# Altium schematic symbol library LPEDT_Parts.SchLib: 52 symbols (part 1 of 3)
Pins are listed as number, name and electrical type; pins without a type are passive.

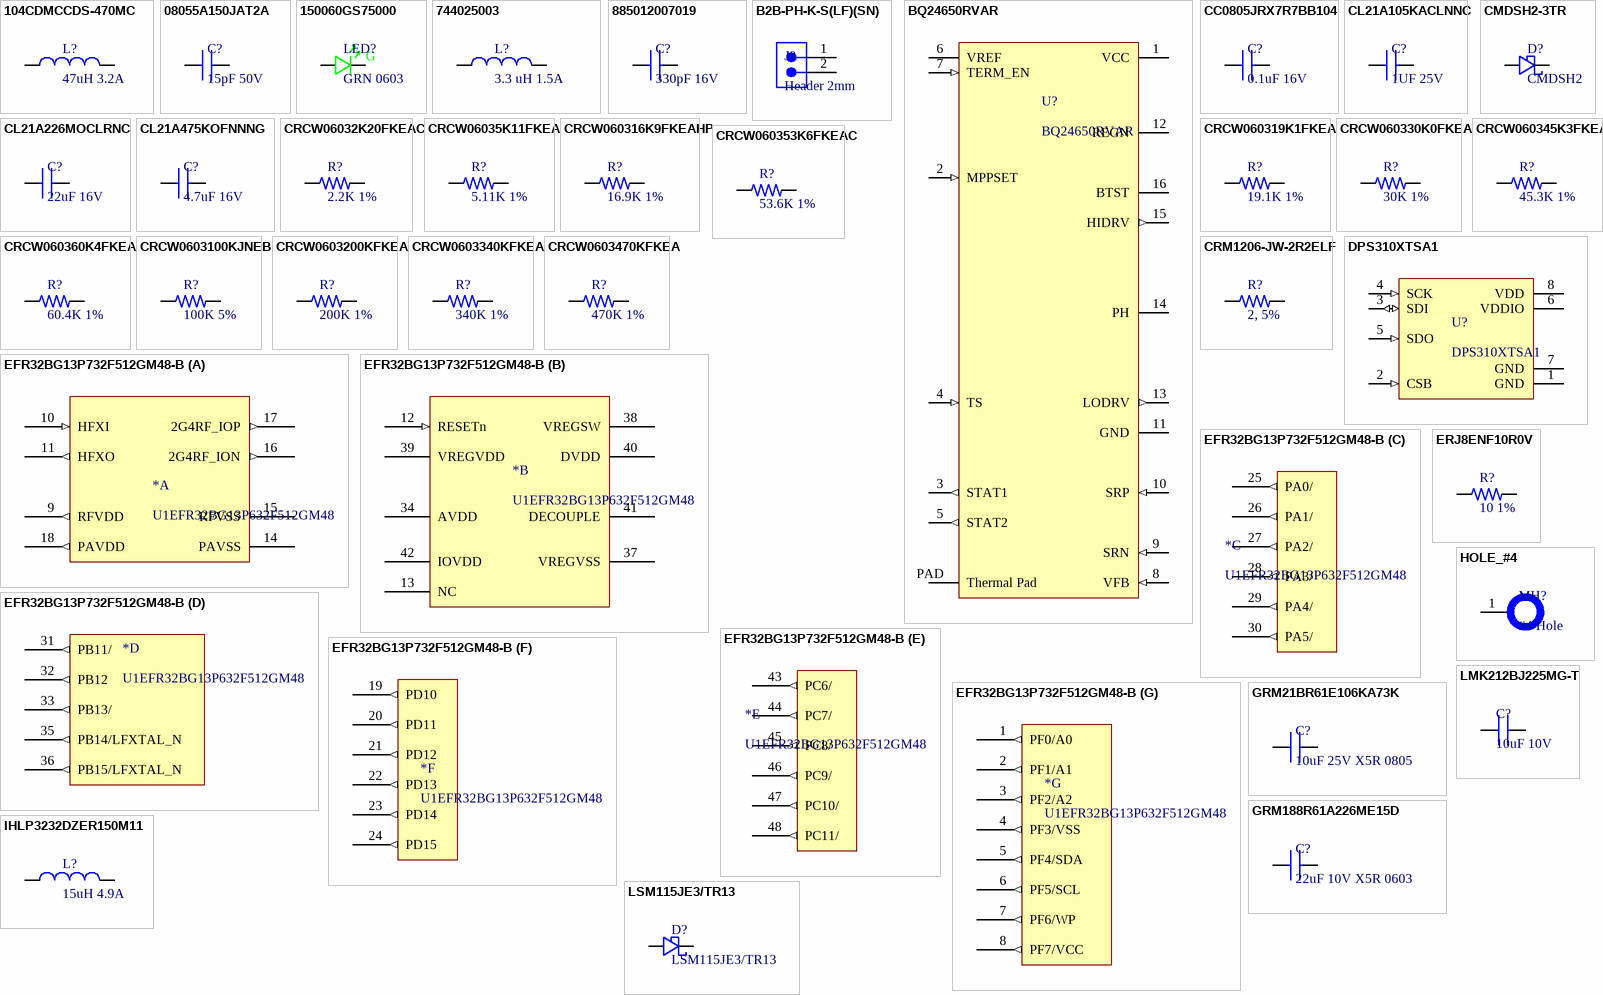
[diagram p0: symbols 104CDMCCDS-470MC to LSM115JE3/TR13]

## 104CDMCCDS-470MC
designator L?, comment 47uH 3.2A
Fixed Ind 47UH 3.2A 145 Mohm; Manufacturer: Sumida; Manufacturer Part Number: 104CDMCCDS-470MC; Core Material: Metal; Saturation Current: 4.3A; Shielding: Shielded; DC Resistance (DCR): 145mR; Test Frequency: 100kHz; Tolerance: 20%; Supplier 1: Digi-Key; RoHS: Yes; Category: Fixed Inductors; Stock 1: 9950; Pricing 1: 1=0.90000, 10=0.83800, 25=0.77400, 50=0.64500, 100=0.60630, 250=0.54180 (USD); Mount: Surface Mount; Case/Package: Nonstandard; Min Operating Temperature: -55°C; Max Operating Temperature: 125°C; Packaging: Tape and Reel; Inductance: 47uH; Current Rating: 3.2A; Length: 0.453inch; Width: 0.394inch; Height - Seated (Max): 0.157inch; RoHS Compliant: Yes; ComponentLink1URL: http://products.sumida.com/products/pdf/104CDMCCDS.pdf?src-supplier=Digi-Key; ComponentLink1Description: http://products.sumida.com/products/pdf/104CDMCCDS.pdf?src-supplier=Digi-Key
footprint IND_11_5MMX10_3MM (Molded Inductor, 2-Leads, Body 11.50x10.00mm, IPC Medium Density)
pins: 1, 2

## 08055A150JAT2A
designator C?, comment 15pF 50V
0805 15pF Ceramic Multilayer Capacitor, 50 V dc,  +125degC,  C0G Dielectric,  +/-5%; Manufacturer: Kyocera AVX; Manufacturer Part Number: 08055A150JAT2A; Tolerance: 5%; Temperature Coefficient: 0ppm/°C; Supplier 1: Digi-Key; RoHS: Yes; Category: Ceramic Capacitors; Stock 1: 59408; Pricing 1: 1=0.14000, 10=0.10200, 50=0.05780, 100=0.04780, 500=0.03356, 1000=0.02778 (USD); Mount: Surface Mount,PCB; Case/Package: 0805; Number of Pins: 2; Case Code (Metric): 2012; Case Code (Imperial): 0805; Contact Plating: Tin,Matte; Dielectric Material: Ceramic; Min Operating Temperature: -55°C; Max Operating Temperature: 125°C; Capacitance: 15pF; Dielectric: C0G; Packaging: Tape and Reel; Voltage Rating (DC): 50V; Package Quantity: 1; Voltage Rating: 50V; Termination: SMD/SMT; Voltage: 50V; Series: -; Construction: Flat; Length: 2.01mm; Width: 0.049inch; Height: 0.71mm; Depth: 1.25mm; Thickness: 0.037inch; Radiation Hardening: No; REACH SVHC: No SVHC; Lead Free: Lead Free; RoHS Compliant: Yes; ComponentLink1URL: https://datasheet.ciiva.com/150/ccog-150608.pdf?src-supplier=Digi-Key; ComponentLink1Description: https://datasheet.ciiva.com/150/ccog-150608.pdf?src-supplier=Digi-Key; ComponentLink2URL: https://datasheet.ciiva.com/150/ccog-150609.pdf?src-supplier=Digi-Key; ComponentLink2Description: https://datasheet.ciiva.com/150/ccog-150609.pdf?src-supplier=Digi-Key; ComponentLink3URL: https://datasheet.ciiva.com/150/ccog-150610.pdf?src-supplier=Digi-Key; ComponentLink3Description: https://datasheet.ciiva.com/150/ccog-150610.pdf?src-supplier=Digi-Key; ComponentLink4URL: https://datasheet.ciiva.com/16537/ccog-16537029.pdf?src-supplier=Avnet+Asia; ComponentLink4Description: https://datasheet.ciiva.com/16537/ccog-16537029.pdf?src-supplier=Avnet+Asia; ComponentLink5URL: https://datasheet.ciiva.com/22676/759117-22676981.pdf?src-supplier=Element14; ComponentLink5Description: https://datasheet.ciiva.com/22676/759117-22676981.pdf?src-supplier=Element14; ComponentLink6URL: https://datasheet.ciiva.com/2987/ccog-2987979.pdf?src-supplier=Avnet; ComponentLink6Description: https://datasheet.ciiva.com/2987/ccog-2987979.pdf?src-supplier=Avnet; ComponentLink7URL: https://datasheet.ciiva.com/17492/ccog-17492987.pdf?src-supplier=Avnet+Europe; ComponentLink7Description: https://datasheet.ciiva.com/17492/ccog-17492987.pdf?src-supplier=Avnet+Europe; ComponentLink8URL: https://datasheet.ciiva.com/7812/759117-7812028.pdf?src-supplier=Element14; ComponentLink8Description: https://datasheet.ciiva.com/7812/759117-7812028.pdf?src-supplier=Element14; ComponentLink9URL: https://datasheet.ciiva.com/14592/70001039-14592399.pdf?src-supplier=Allied+Electronics; ComponentLink9Description: https://datasheet.ciiva.com/14592/70001039-14592399.pdf?src-supplier=Allied+Electronics
footprint CAP_0805_1_4MM (Chip Capacitor, 2-Leads, Body 2.00x1.25mm, IPC Medium Density)
pins: 1, 2

## 150060GS75000
designator LED?, comment GRN 0603
LED, 0603, GREEN, 430MCD, 520NM; Manufacturer: Wurth Electronics; Manufacturer Part Number: 150060GS75000; Dynamic Catalog: 0603 Rectangle with Flat Top Chip LEDs; 3D Model: SMCW_0603.igs / SMCW_0603.stp / SMCW_0603.wrl; Wavelength - Peak: 515nm; Voltage - Forward (Vf) (Typ): 3.2V; Current - Test: 20mA; Viewing Angle: 140°; Lens Type: Clear; Lens Style/Size: Rectangle with Flat Top, 1.1mm x 0.7mm; Other Names: 732-4971-2; Supplier 1: Digi-Key; Stock 1: 34964; Pricing 1: 1=0.14, 50=0.129, 100=0.11, 500=0.095 (USD); Standard Package: 4,000; Category: Optoelectronics; Family: LED Indication - Discrete; Series: WL-SMCW; Packaging: Tape & Reel (TR); Color: Green; Wavelength - Dominant: 520nm; Millicandela Rating: 430mcd; Package / Case: 0603 (1608 Metric); Size / Dimension: 1.60mm L x 0.80mm W; Height: 0.70mm; Mounting Type: Surface Mount; Online Catalog: 0603 Rectangle with Flat Top Chip LEDs; ComponentLink1URL: https://katalog.we-online.de/led/datasheet/150060GS75000.pdf?src-supplier=Digi-Key; ComponentLink1Description: https://katalog.we-online.de/led/datasheet/150060GS75000.pdf?src-supplier=Digi-Key; ComponentLink2URL: http://www.produktinfo.conrad.com/datenblaetter/750000-774999/759427-da-01-en-CHIPLED_0603_W_KL_GRUEN_150060GS75000.pdf?src-supplier=Conrad; ComponentLink2Description: http://www.produktinfo.conrad.com/datenblaetter/750000-774999/759427-da-01-en-CHIPLED_0603_W_KL_GRUEN_150060GS75000.pdf?src-supplier=Conrad; Supplier Part Number 1: 732-4971-1-ND
footprint LED_0603_GRN_WL-SMCW (SODFL, 2-Leads, Body 0.80x1.80mm, IPC Medium Density)
pins: A, C
text: G

## 744025003
designator L?, comment 3.3 uH 1.5A
WURTH ELEKTRONIK - 744025003 - Leistungsinduktivität (SMD), 3.3 µH, 1.5 A, Geschirmt, 1.8 A, Baureihe WE-TPC; Manufacturer: Wurth Electronics; Core Material: Ferrite; Tolerance: 20%; Saturation Current: 1.8A; Shielding: Shielded; Self Resonant Frequency: 100MHz; Inductance: 3.3uH; DC Resistance (DCR): 101mR; Test Frequency: 100kHz; Series Resistance: 85MR; Supplier 1: Digi-Key; Manufacturer Part Number: 744025003; RoHS: Yes; Category: Fixed Inductors; Stock 1: 2844; Pricing 1: 1=1.54000, 10=1.48000, 50=1.36000, 100=1.13000, 250=1.02000 (USD); Mount: Surface Mount; Case/Package: Nonstandard; Number of Pins: 2; Min Operating Temperature: -40°C; Max Operating Temperature: 125°C; Package Quantity: 1; Packaging: Cut Tape; Series: WE-TPC; Current Rating: 1.5A; Inductance Tolerance: 20%; Resistor Type: Wirewound; Max DC Current: 1.5A; Termination: SMD/SMT; RMS Current (Irms): 1.5A; Length: 2.8mm; Width: 0.11inch; Height: 2.8mm; Height - Seated (Max): 0.118inch; Depth: 2.8mm; REACH SVHC: Unknown; RoHS Compliant: Yes; ComponentLink1URL: https://datasheet.ciiva.com/1060/744025003-1060566.pdf?src-supplier=Digi-Key; ComponentLink1Description: https://datasheet.ciiva.com/1060/744025003-1060566.pdf?src-supplier=Digi-Key; ComponentLink2URL: https://datasheet.ciiva.com/11803/0900766b80f886b5-11803594.pdf?src-supplier=RSComponents; ComponentLink2Description: https://datasheet.ciiva.com/11803/0900766b80f886b5-11803594.pdf?src-supplier=RSComponents; ComponentLink3URL: https://datasheet.ciiva.com/4954/744025003-88791-4954796.pdf?src-supplier=Mouser; ComponentLink3Description: https://datasheet.ciiva.com/4954/744025003-88791-4954796.pdf?src-supplier=Mouser; ComponentLink4URL: https://datasheet.ciiva.com/14123/744025003-eng-tds-14123829.pdf?src-supplier=Distrelec; ComponentLink4Description: https://datasheet.ciiva.com/14123/744025003-eng-tds-14123829.pdf?src-supplier=Distrelec; ComponentLink5URL: https://datasheet.ciiva.com/1060/744025003-1060567.pdf?src-supplier=Digi-Key; ComponentLink5Description: https://datasheet.ciiva.com/1060/744025003-1060567.pdf?src-supplier=Digi-Key; ComponentLink6URL: https://datasheet.ciiva.com/1060/744025003-1060568.pdf?src-supplier=Digi-Key; ComponentLink6Description: https://datasheet.ciiva.com/1060/744025003-1060568.pdf?src-supplier=Digi-Key
footprint IND_2828x30 (Precision Wire Wound Inductor, 2-Leads, Body 2.80x2.80mm, IPC Medium Density)
pins: 1, 2

## 885012007019
designator C?, comment 330pF 16V
WURTH ELEKTRONIK - 885012007019 - CAP, 330PF, 16V, 5%, C0G/NP0, 0805; Manufacturer: Wurth Electronics; Supplier 1: Digi-Key; Manufacturer Part Number: 885012007019; RoHS: Yes; Category: Ceramic Capacitors; Stock 1: 2084; Pricing 1: 1=0.10000, 10=0.08500, 100=0.07600, 500=0.06718 (USD); Mount: Surface Mount; Case/Package: 0805; Case Code (Metric): 2012; Case Code (Imperial): 0805; Min Operating Temperature: -55°C; Max Operating Temperature: 125°C; Packaging: Tape and Reel; Capacitance: 330pF; Voltage Rating: 16V; Tolerance: 5%; Length: 0.079inch; Width: 0.049inch; Thickness: 0.028inch; RoHS Compliant: Yes; ComponentLink1URL: http://www.farnell.com/datasheets/2546626.pdf?src-supplier=Farnell; ComponentLink1Description: http://www.farnell.com/datasheets/2546626.pdf?src-supplier=Farnell; ComponentLink2URL: https://katalog.we-online.de/pbs/datasheet/885012007019.pdf?src-supplier=Digi-Key; ComponentLink2Description: https://katalog.we-online.de/pbs/datasheet/885012007019.pdf?src-supplier=Digi-Key
footprint CAP_0805_1_4MM (Chip Capacitor, 2-Leads, Body 2.00x1.25mm, IPC Medium Density)
pins: 1, 2

## B2B-PH-K-S(LF)(SN)
designator J?, comment Header 2mm
Connector Header, PH Series, 2 Position, 2.00mm, Through Hole, Press-Fit, Solder, Natural; Manufacturer: JST; Manufacturer Part Number: B2B-PH-K-S(LF)(SN); Supplier 1: Digi-Key; RoHS: Yes; Category: Connectors; Stock 1: 171845; Pricing 1: 1=0.17000, 10=0.16200, 25=0.12080, 50=0.10360, 250=0.08632, 750=0.07771, 1000=0.07252, 12000=0.05526, 24000=0.05008 (USD); Weight: 0.0625lb; Length: 0.2inch; Width: 0.24inch; Height: 0.35inch; ComponentLink1URL: http://www.farnell.com/datasheets/2057211.pdf?src-supplier=Farnell; ComponentLink1Description: http://www.farnell.com/datasheets/2057211.pdf?src-supplier=Farnell; ComponentLink2URL: http://www.farnell.com/datasheets/2057211.pdf?src-supplier=Element14; ComponentLink2Description: http://www.farnell.com/datasheets/2057211.pdf?src-supplier=Element14; ComponentLink3URL: http://www.farnell.com/datasheets/2057211.pdf?src-supplier=Newark; ComponentLink3Description: http://www.farnell.com/datasheets/2057211.pdf?src-supplier=Newark
footprint 2-PIN_MALE_HEADER_2MM (2MM SQ Post Terminal Strip Assembly, 1x2 Pins, Vertical, 2mm Pitch, Male)
pins: 1, 2

## BQ24650RVAR
designator U?
High Efficiency Synchronous Switch-Mode Charger Controller – Solar Battery Charger 16-VQFN -40 to 85; Manufacturer: Texas Instruments; Output Voltage: 26V; Min Supply Voltage: 5V; Max Supply Voltage: 28V; Output Current: 10A; Operating Supply Current: 25mA; Switching Frequency: 600kHz; Number of Cells: 123456; Supplier 1: Digi-Key; Manufacturer Part Number: BQ24650RVAR; RoHS: Yes; Category: Battery Management; Stock 1: 7704; Pricing 1: 1=4.94000, 10=4.44000, 25=4.19760, 100=3.45140, 250=3.09688, 500=2.98496, 1000=2.48125 (USD); Case/Package: VQFN EP; Number of Pins: 16; Contact Plating: Gold; Min Operating Temperature: -40°C; Max Operating Temperature: 85°C; Package Quantity: 3000; Packaging: Tape and Reel; Min Input Voltage: 5V; Series: -; Radiation Hardening: No; Lead Free: Lead Free; RoHS Compliant: Yes; ComponentLink1URL: https://datasheet.ciiva.com/15115/getdatasheetpartid-517726-15115144.pdf?src-supplier=Verical; ComponentLink1Description: https://datasheet.ciiva.com/15115/getdatasheetpartid-517726-15115144.pdf?src-supplier=Verical; ComponentLink2URL: https://datasheet.ciiva.com/1934/bq24650-1934895.pdf?src-supplier=Digi-Key; ComponentLink2Description: https://datasheet.ciiva.com/1934/bq24650-1934895.pdf?src-supplier=Digi-Key; ComponentLink3URL: https://datasheet.ciiva.com/3214/bq24650-3214319.pdf?src-supplier=Avnet; ComponentLink3Description: https://datasheet.ciiva.com/3214/bq24650-3214319.pdf?src-supplier=Avnet
footprint 16-QFN_3_5x3_5 (QFN, 16-Leads, Body 3.50x3.50mm, Pitch 0.50mm, Thermal Pad 1.78x1.78mm, IPC Medium Density)
pins: 1 VCC (power) "IC power positive supply. Place a 1uF ceramic capacitor from VCC to GND and place it as close as possible to IC. Place a 10-Ω resistor from input side to VCC pin to filter the noise.", 2 MPPSET (in) ""Input voltage set point. Use a voltage divider from input source to GND to set voltage on MPPSET to 1.2 / V. To disable charge, pull MPPSET below 75 mV."", 3 STAT1 (out) ""Open-drain charge status output to indicate various charger operation. Connect to the cathode of LED / with 10 kΩ to the pullup rail. LOW or LED light up indicates charge in progress. Otherwise stays HI or / LED stays off. When any fault condition occurs, both STAT1 and STAT2 are HI, or both LEDs are off."", 4 TS (in) ""Temperature qualification voltage input. Connect to a negative temperature coefficient thermistor. / Program the hot and cold temperature window with a resistor divider from VREF to TS to GND. A 103AT- / 2 thermister is recommended."", 5 STAT2 (out) ""Open-drain charge status output to indicate various charger operation. Connect to the cathode of LED / with 10 kΩ to the pullup rail. LOW or LED light up indicates charge is complete. Otherwise, stays HI or / LED stays off. When any fault condition occurs, both STAT1 and STAT2 are HI, or both LEDs are off."", 6 VREF (power) ""3.3-V reference voltage output. Place a 1-μF ceramic capacitor from VREF to GND pin close to the IC. / This voltage could be used for programming voltage on TS and the pullup rail of STAT1 and STAT2."", 7 TERM_EN (in) ""Charge termination enable. Pull TERM_EN to GND to disable charge termination. Pull TERM_EN to / VREF to allow charge termination. TERM_EN must be terminated and cannot be left floating."", 8 VFB (in) ""Charge voltage analog feedback adjustment. Connect the output of a resistor divider powered from the / battery terminals to this node to adjust the output battery voltage regulation."", 9 SRN (in) ""Charge current sense resistor, negative input. A 0.1-μF ceramic capacitor is placed from SRN to SRP to / provide differential-mode filtering. An optional 0.1-μF ceramic capacitor is placed from SRN to GND for / common-mode filtering."", 10 SRP (in) ""Charge current sense resistor, positive input. A 0.1-μF ceramic capacitor is placed from SRN to SRP to / provide differential-mode filtering. A 0.1-μF ceramic capacitor is placed from SRP to GND for commonmode / filtering."", 11 GND (power) ""Power ground. Ground connection for high-current power converter node. On PCB layout, connect / directly to source of low-side power MOSFET, to ground connection of input and output capacitors of the / charger. Only connect to GND through the thermal pad underneath the IC."", 12 REGN (power) ""PWM low-side driver positive 6-V supply output. Connect a 1-μF ceramic capacitor from REGN to GND, / close to the IC. Use to drive low-side driver and high-side driver bootstrap Schottky diode from REGN to / BTST."", 13 LODRV (out) ""PWM low-side driver output. Connect to the gate of the low-side N-channel power MOSFET with a short / trace."", 14 PH (power) ""Switching node, charge current output inductor connection. Connect the 0.1-μF bootstrap capacitor from / PH to BTST."", 15 HIDRV (out) ""PWM high-side driver output. Connect to the gate of the high-side N-channel power MOSFET with a short / trace."", 16 BTST (power) "PWM high-side driver positive supply. Connect the 0.1-μF bootstrap capacitor from PH to BTST.", PAD Thermal Pad (power) ""Exposed pad beneath the IC. The thermal pad must always be soldered to the board and have the vias / on the thermal pad plane star-connecting to GND and ground plane for high-current power converter. It / also serves as a thermal pad to dissipate heat.""

## CC0805JRX7R7BB104
designator C?, comment 0.1uF 16V
CAP CER 0.1UF 16V X7R 0805; Manufacturer: Yageo; Manufacturer Part Number: CC0805JRX7R7BB104; Capacitance: 100nF; Tolerance: 5%; Supplier 1: Digi-Key; RoHS: Yes; Category: Ceramic Capacitors; Stock 1: 2346; Pricing 1: 1=0.12000, 10=0.08400, 50=0.04760, 100=0.03950, 500=0.02768, 1000=0.02291 (USD); Mount: Surface Mount; Case/Package: 0805; Case Code (Imperial): 0805; Case Code (Metric): 2012; Weight: 0.000194oz; Min Operating Temperature: -55°C; Max Operating Temperature: 125°C; Packaging: Tape and Reel; Voltage Rating (DC): 16V; Voltage Rating: 16V; Dielectric: X7R; Termination: SMD/SMT; Resistor Type: Ceramic; Series: CC; Length: 2mm; Width: 0.049inch; Thickness: 0.037inch; Depth: 1.25mm; Radiation Hardening: No; Lead Free: Lead Free; Halogen Free: Halogen Free; RoHS Compliant: Yes; ComponentLink1URL: https://datasheet.ciiva.com/26918/getdatasheetpartid-755584-26918332.pdf?src-supplier=Verical; ComponentLink1Description: https://datasheet.ciiva.com/26918/getdatasheetpartid-755584-26918332.pdf?src-supplier=Verical; ComponentLink2URL: https://datasheet.ciiva.com/17434/upy-gphc-x7r-6-3v-to-50v-8-17434890.pdf?src-supplier=Avnet+Europe; ComponentLink2Description: https://datasheet.ciiva.com/17434/upy-gphc-x7r-6-3v-to-50v-8-17434890.pdf?src-supplier=Avnet+Europe
footprint CAP_0805_1_4MM (Chip Capacitor, 2-Leads, Body 2.00x1.25mm, IPC Medium Density)
pins: 1, 2

## CL21A105KACLNNC
designator C?, comment 1UF 25V
Cap Ceramic 1uF 25V X5R 10% SMD 0805 85C Paper T/R; Manufacturer: Samsung; Manufacturer Part Number: CL21A105KACLNNC; Supplier 1: Digi-Key; RoHS: Yes; Category: Ceramic Capacitors; Stock 1: 356000; Pricing 1: 4000=0.02185, 8000=0.02033 (USD); Mount: Surface Mount; Case/Package: 0805; Case Code (Metric): 2012; Case Code (Imperial): 0805; Min Operating Temperature: -55°C; Max Operating Temperature: 85°C; Capacitance: 1uF; Tolerance: 10%; Dielectric: X5R; Package Quantity: 1; Packaging: Tape and Reel; Voltage Rating: 25V; Series: CL; Construction: Flat; Length: 2mm; Width: 0.049inch; Height: 0.85mm; Depth: 1.25mm; Thickness: 0.037inch; Radiation Hardening: No; Lead Free: Lead Free; RoHS Compliant: Yes; ComponentLink1URL: https://datasheet.ciiva.com/25719/cl21a105kaclnnc-25719413.pdf?src-supplier=Digi-Key; ComponentLink1Description: https://datasheet.ciiva.com/25719/cl21a105kaclnnc-25719413.pdf?src-supplier=Digi-Key; ComponentLink2URL: https://datasheet.ciiva.com/16291/cl21a105kaclnnc-16291978.pdf?src-supplier=Future+Electronics; ComponentLink2Description: https://datasheet.ciiva.com/16291/cl21a105kaclnnc-16291978.pdf?src-supplier=Future+Electronics
footprint CAP_0805_1_4MM (Chip Capacitor, 2-Leads, Body 2.00x1.25mm, IPC Medium Density)
pins: 1, 2

## CL21A226MOCLRNC
designator C?, comment 22uF 16V
CAP CER 22UF 16V X5R 0805; Manufacturer: Samsung; Manufacturer Part Number: CL21A226MOCLRNC; Tolerance: 20%; Supplier 1: Digi-Key; RoHS: Yes; Category: Ceramic Capacitors; Stock 1: 182418; Pricing 1: 1=0.35000, 10=0.23900, 50=0.15920, 100=0.13540, 500=0.09554, 1000=0.08360 (USD); Mount: Surface Mount; Case/Package: 0805; Case Code (Metric): 2012; Case Code (Imperial): 0805; Min Operating Temperature: -55°C; Max Operating Temperature: 85°C; Packaging: Tape and Reel; Capacitance: 22uF; Voltage Rating: 16V; Length: 0.079inch; Width: 0.049inch; Thickness: 0.037inch; ComponentLink1URL: http://www.samsungsem.com/kr/support/product-search/mlcc/CL21A226MOCLRNC.jsp?src-supplier=Digi-Key; ComponentLink1Description: http://www.samsungsem.com/kr/support/product-search/mlcc/CL21A226MOCLRNC.jsp?src-supplier=Digi-Key
footprint CAP_0805_1_4MM (Chip Capacitor, 2-Leads, Body 2.00x1.25mm, IPC Medium Density)
pins: 1, 2

## CL21A475KOFNNNG
designator C?, comment 4.7uF 16V
CAP CER 4.7UF 16V X5R 0805; Manufacturer: Samsung; Manufacturer Part Number: CL21A475KOFNNNG; Material: Ceramic; Tolerance: 10%; Supplier 1: Digi-Key; RoHS: Yes; Category: Ceramic Capacitors; Stock 1: 18827; Pricing 1: 1=0.12000, 10=0.08800, 50=0.05000, 100=0.04140, 500=0.02906, 1000=0.02405 (USD); Mount: Surface Mount; Case/Package: 0805; Case Code (Metric): 2012; Case Code (Imperial): 0805; Min Operating Temperature: -55°C; Max Operating Temperature: 85°C; Capacitance: 4.7uF; Package Quantity: 3000; Packaging: Tape and Reel; Voltage Rating: 16V; Dielectric: X5R; Voltage: 16V; Series: CL; Length: 2mm; Width: 0.049inch; Height: 1.25mm; Thickness: 0.053inch; Depth: 1.25mm; Lead Free: Lead Free; RoHS Compliant: Yes; ComponentLink1URL: https://datasheet.ciiva.com/25731/cl21a475kofnnng-25731814.pdf?src-supplier=Digi-Key; ComponentLink1Description: https://datasheet.ciiva.com/25731/cl21a475kofnnng-25731814.pdf?src-supplier=Digi-Key; ComponentLink2URL: https://datasheet.ciiva.com/29199/455276-da-01-en-vs-kondensator-0805-29199361.pdf?src-supplier=Conrad; ComponentLink2Description: https://datasheet.ciiva.com/29199/455276-da-01-en-vs-kondensator-0805-29199361.pdf?src-supplier=Conrad; ComponentLink3URL: https://datasheet.ciiva.com/26310/mlcc-catalogdownload2013-eng-26310158.pdf?src-supplier=Distrelec; ComponentLink3Description: https://datasheet.ciiva.com/26310/mlcc-catalogdownload2013-eng-26310158.pdf?src-supplier=Distrelec; ComponentLink4URL: https://datasheet.ciiva.com/16428/cl05b104kq5nnnc-16428879.pdf?src-supplier=Future+Electronics; ComponentLink4Description: https://datasheet.ciiva.com/16428/cl05b104kq5nnnc-16428879.pdf?src-supplier=Future+Electronics
footprint CAP_0805_1_4MM (Chip Capacitor, 2-Leads, Body 2.00x1.25mm, IPC Medium Density)
pins: 1, 2

## CMDSH2-3TR
designator D?, comment CMDSH2
DIODE SCHOTTKY 30V 200MA SOD323
footprint SOD-323_250X100 (SOD-323, 2-Leads, Body 1.25x2.50mm, IPC Medium Density)
pins: 1 CATHODE, 2 ANODE

## CRCW06032K20FKEAC
designator R?, comment 2.2K 1%
Res Thick Film 0603 2.2K Ohm 1% 1/10W ±100ppm/°C Molded SMD Paper T/R; Manufacturer: Vishay Semiconductors; Manufacturer Part Number: CRCW06032K20FKEAC; Resistance: 2.2kR; Power Rating: 100mW; Supplier 1: Digi-Key; RoHS: Yes; Category: Resistors; Stock 1: 58562; Pricing 1: 1=0.10000, 10=0.03400, 100=0.01390, 1000=0.00624, 2500=0.00542 (USD); Mount: Surface Mount; Case/Package: Molded; Contact Plating: Tin; Min Operating Temperature: -55°C; Max Operating Temperature: 155°C; Resistor Type: Thick Film; Termination: Wraparound; Tolerance: 1%; Temperature Coefficient: 100ppm/°C; Length: 1.55mm; Lead Free: Lead Free; RoHS Compliant: Yes; ComponentLink1URL: http://www.vishay.com/docs/20035/dcrcwe3.pdf?src-supplier=Avnet+Asia; ComponentLink1Description: http://www.vishay.com/docs/20035/dcrcwe3.pdf?src-supplier=Avnet+Asia; ComponentLink2URL: http://www.vishay.com/docs/28773/crcwce3.pdf?src-supplier=Digi-Key; ComponentLink2Description: http://www.vishay.com/docs/28773/crcwce3.pdf?src-supplier=Digi-Key
footprint RES_0603_1608X06 (Chip Resistor, 2-Leads, Body 1.60x0.80mm, IPC Medium Density)
pins: 1, 2

## CRCW06035K11FKEA
designator R?, comment 5.11K 1%
VISHAY DRALORIC      CRCW06035K11FKEA      RESISTOR, 0603, 5K11, 1%; Resistance: 5.11kR; Temperature Coefficient: 100ppm/°C; Max Power Dissipation: 100mW; Voltage Rating: 75V; Supplier 1: Digi-Key; Manufacturer: Vishay; Manufacturer Part Number: CRCW06035K11FKEA; RoHS: Yes; Category: Chip SMD Resistors; Stock 1: 26899; Pricing 1: 1=0.10000, 10=0.03400, 100=0.01390, 1000=0.00624, 2500=0.00542 (USD); Case/Package: 0603; Contact Plating: Tin; Weight: 7.1E-05oz; Case Code (Imperial): 0603; Case Code (Metric): 1608; Min Operating Temperature: -55°C; Max Operating Temperature: 155°C; Tolerance: 1%; Resistor Type: Thick Film; Packaging: Tape and Reel; Package Quantity: 5000; Number of Terminations: 2; Features: Automotive AEC-Q200; Series: CRCW; Power Rating: 100mW; Termination: SMD/SMT; Voltage Rating (DC): 75V; Working Voltage: 75V; Resistance Tolerance: 1%; Construction: Rectangular; Technology: THICK FILM; Length: 1.55mm; Width: 0.85mm; Height: 0.45mm; Depth: 0.85mm; Radiation Hardening: No; RoHS Compliant: Yes; Lead Free: Lead Free; REACH SVHC: Unknown; Military Standard: Not; ComponentLink1URL: https://datasheet.ciiva.com/11811/0900766b80d98afc-11811066.pdf?src-supplier=RSComponents; ComponentLink1Description: https://datasheet.ciiva.com/11811/0900766b80d98afc-11811066.pdf?src-supplier=RSComponents; ComponentLink2URL: https://datasheet.ciiva.com/16767/70201119-16767416.pdf?src-supplier=Allied+Electronics; ComponentLink2Description: https://datasheet.ciiva.com/16767/70201119-16767416.pdf?src-supplier=Allied+Electronics; ComponentLink3URL: https://datasheet.ciiva.com/16199/dcrcwe3-16199206.pdf?src-supplier=Future+Electronics; ComponentLink3Description: https://datasheet.ciiva.com/16199/dcrcwe3-16199206.pdf?src-supplier=Future+Electronics; ComponentLink4URL: https://datasheet.ciiva.com/7690/1697337-7690729.pdf?src-supplier=Element14; ComponentLink4Description: https://datasheet.ciiva.com/7690/1697337-7690729.pdf?src-supplier=Element14; ComponentLink5URL: https://datasheet.ciiva.com/7792/125364-7792345.pdf?src-supplier=Element14; ComponentLink5Description: https://datasheet.ciiva.com/7792/125364-7792345.pdf?src-supplier=Element14; ComponentLink6URL: https://datasheet.ciiva.com/16514/dcrcwe3-16514841.pdf?src-supplier=Avnet+Asia; ComponentLink6Description: https://datasheet.ciiva.com/16514/dcrcwe3-16514841.pdf?src-supplier=Avnet+Asia; ComponentLink7URL: https://datasheet.ciiva.com/22707/1697337-22707753.pdf?src-supplier=Element14; ComponentLink7Description: https://datasheet.ciiva.com/22707/1697337-22707753.pdf?src-supplier=Element14; ComponentLink8URL: https://datasheet.ciiva.com/7690/1697337-7690730.pdf?src-supplier=Element14; ComponentLink8Description: https://datasheet.ciiva.com/7690/1697337-7690730.pdf?src-supplier=Element14; ComponentLink9URL: https://datasheet.ciiva.com/5541/dcrcwe3-109170-5541611.pdf?src-supplier=Mouser; ComponentLink9Description: https://datasheet.ciiva.com/5541/dcrcwe3-109170-5541611.pdf?src-supplier=Mouser
footprint RES_0603_1608X06 (Chip Resistor, 2-Leads, Body 1.60x0.80mm, IPC Medium Density)
pins: 1, 2

## CRCW060316K9FKEAHP
designator R?, comment 16.9K 1%
RES SMD 16.9K OHM 1% 1/4W 0603; Manufacturer: Vishay Dale; Manufacturer Part Number: CRCW060316K9FKEAHP; Resistance: 16.9kR; Max Power Dissipation: 250mW; Temperature Coefficient: 100ppm/°C; Supplier 1: Digi-Key; RoHS: Yes; Category: Chip SMD Resistors; Stock 1: 4990; Pricing 1: 1=0.17000, 10=0.14200, 100=0.05530, 1000=0.02317, 2500=0.02124 (USD); Case/Package: 0603; Package Quantity: 5000; Tolerance: 1%; Packaging: Tape and Reel; Resistor Type: Thick Film; Number of Terminations: 2; Features: Automotive AEC-Q200; Series: CRCW-HP; Length: 0.063inch; Width: 0.033inch; Height: 0.022inch; Lead Free: Lead Free; RoHS Compliant: Yes; ComponentLink1URL: https://datasheet.ciiva.com/2576/crcwhpe3-2576879.pdf?src-supplier=Digi-Key; ComponentLink1Description: https://datasheet.ciiva.com/2576/crcwhpe3-2576879.pdf?src-supplier=Digi-Key
footprint RES_0603_1608X06 (Chip Resistor, 2-Leads, Body 1.60x0.80mm, IPC Medium Density)
pins: 1, 2

## CRCW060319K1FKEA
designator R?, comment 19.1K 1%
VISHAY         CRCW060319K1FKEA.             SMD Chip Resistor, Thick Film, 19.1 kohm, 75 V, 0603 [1608 Metric], 100 mW,  1%, CRCW Series; Resistance: 19.1kR; Temperature Coefficient: 100ppm/°C; Max Power Dissipation: 100mW; Voltage Rating: 75V; Supplier 1: Digi-Key; Manufacturer: Vishay; Manufacturer Part Number: CRCW060319K1FKEA; RoHS: Yes; Category: Chip SMD Resistors; Stock 1: 2662; Pricing 1: 1=0.10000, 10=0.03400, 100=0.01390, 1000=0.00624, 2500=0.00542 (USD); Mount: Surface Mount; Case/Package: 0603; Number of Pins: 2; Contact Plating: Tin; Weight: 7.1E-05oz; Case Code (Imperial): 0603; Case Code (Metric): 1608; Min Operating Temperature: -55°C; Max Operating Temperature: 155°C; Tolerance: 1%; Resistor Type: Thick Film; Packaging: Tape and Reel; Package Quantity: 10; Number of Terminations: 2; Features: Automotive AEC-Q200; Series: CRCW; Power Rating: 100mW; Termination: SMD/SMT; Voltage Rating (DC): 75V; Working Voltage: 75V; Construction: Rectangular; Resistance Tolerance: 1%; Technology: THICK FILM; Length: 1.55mm; Width: 0.85mm; Height: 0.02inch; Depth: 0.85mm; Radiation Hardening: No; RoHS Compliant: Yes; Lead Free: Lead Free; REACH SVHC: Unknown; Military Standard: Not; ComponentLink1URL: https://datasheet.ciiva.com/2494/dcrcwe3-2494660.pdf?src-supplier=Digi-Key; ComponentLink1Description: https://datasheet.ciiva.com/2494/dcrcwe3-2494660.pdf?src-supplier=Digi-Key; ComponentLink2URL: https://datasheet.ciiva.com/2494/dcrcwe3-2494661.pdf?src-supplier=Digi-Key; ComponentLink2Description: https://datasheet.ciiva.com/2494/dcrcwe3-2494661.pdf?src-supplier=Digi-Key; ComponentLink3URL: https://datasheet.ciiva.com/2494/dcrcwe3-2494662.pdf?src-supplier=Digi-Key; ComponentLink3Description: https://datasheet.ciiva.com/2494/dcrcwe3-2494662.pdf?src-supplier=Digi-Key; ComponentLink4URL: https://datasheet.ciiva.com/16788/70201119-16788342.pdf?src-supplier=Allied+Electronics; ComponentLink4Description: https://datasheet.ciiva.com/16788/70201119-16788342.pdf?src-supplier=Allied+Electronics; ComponentLink5URL: https://datasheet.ciiva.com/3257/dcrcwe3-3257127.pdf?src-supplier=Avnet; ComponentLink5Description: https://datasheet.ciiva.com/3257/dcrcwe3-3257127.pdf?src-supplier=Avnet; ComponentLink6URL: https://datasheet.ciiva.com/16208/dcrcwe3-16208391.pdf?src-supplier=Future+Electronics; ComponentLink6Description: https://datasheet.ciiva.com/16208/dcrcwe3-16208391.pdf?src-supplier=Future+Electronics; ComponentLink7URL: https://datasheet.ciiva.com/22702/1697337-22702887.pdf?src-supplier=Element14; ComponentLink7Description: https://datasheet.ciiva.com/22702/1697337-22702887.pdf?src-supplier=Element14; ComponentLink8URL: https://datasheet.ciiva.com/3257/dcrcwe3-3257128.pdf?src-supplier=Avnet; ComponentLink8Description: https://datasheet.ciiva.com/3257/dcrcwe3-3257128.pdf?src-supplier=Avnet; ComponentLink9URL: https://datasheet.ciiva.com/7792/125364-7792074.pdf?src-supplier=Element14; ComponentLink9Description: https://datasheet.ciiva.com/7792/125364-7792074.pdf?src-supplier=Element14
footprint RES_0603_1608X06 (Chip Resistor, 2-Leads, Body 1.60x0.80mm, IPC Medium Density)
pins: 1, 2

## CRCW060330K0FKEA
designator R?, comment 30K 1%
Resistor SMD 30 kOhm 0603 PU=5000 ST, CRCW060330K0FKEA, Vishay; Resistance: 30kR; Temperature Coefficient: 100ppm/°C; Max Power Dissipation: 100mW; Voltage Rating: 75V; Supplier 1: Digi-Key; Manufacturer: Vishay; Manufacturer Part Number: CRCW060330K0FKEA; RoHS: Yes; Category: Chip SMD Resistors; Stock 1: 24274; Pricing 1: 1=0.10000, 10=0.03400, 100=0.01390, 1000=0.00624, 2500=0.00542 (USD); Mount: Surface Mount; Case/Package: 0603; Number of Pins: 2; Contact Plating: Tin; Weight: 7.1E-05oz; Case Code (Imperial): 0603; Case Code (Metric): 1608; Size Code: 0603; Min Operating Temperature: -55°C; Max Operating Temperature: 155°C; Resistor Type: Thick Film; Tolerance: 1%; Packaging: Tape and Reel; Number of Terminations: 2; Power Rating: 100mW; Package Quantity: 5000; Termination: SMD/SMT; Features: Automotive AEC-Q200; Series: CRCW; Construction: Rectangular; Voltage Rating (DC): 75V; Resistance Tolerance: 1%; Technology: THICK FILM; Length: 1.55mm; Width: 0.85mm; Height: 0.45mm; Depth: 0.85mm; Radiation Hardening: No; RoHS Compliant: Yes; Military Standard: Not; Lead Free: Lead Free; REACH SVHC: Unknown; ComponentLink1URL: https://datasheet.ciiva.com/11809/0900766b80d98afc-11809741.pdf?src-supplier=RSComponents; ComponentLink1Description: https://datasheet.ciiva.com/11809/0900766b80d98afc-11809741.pdf?src-supplier=RSComponents; ComponentLink2URL: https://datasheet.ciiva.com/5545/dcrcwe3-109170-5545991.pdf?src-supplier=Mouser; ComponentLink2Description: https://datasheet.ciiva.com/5545/dcrcwe3-109170-5545991.pdf?src-supplier=Mouser; ComponentLink3URL: https://datasheet.ciiva.com/16770/70201119-16770141.pdf?src-supplier=Allied+Electronics; ComponentLink3Description: https://datasheet.ciiva.com/16770/70201119-16770141.pdf?src-supplier=Allied+Electronics; ComponentLink4URL: https://datasheet.ciiva.com/7673/1720486-7673465.pdf?src-supplier=Element14; ComponentLink4Description: https://datasheet.ciiva.com/7673/1720486-7673465.pdf?src-supplier=Element14; ComponentLink5URL: https://datasheet.ciiva.com/7673/1720486-7673466.pdf?src-supplier=Element14; ComponentLink5Description: https://datasheet.ciiva.com/7673/1720486-7673466.pdf?src-supplier=Element14; ComponentLink6URL: https://datasheet.ciiva.com/2465/dcrcwe3-2465915.pdf?src-supplier=Digi-Key; ComponentLink6Description: https://datasheet.ciiva.com/2465/dcrcwe3-2465915.pdf?src-supplier=Digi-Key; ComponentLink7URL: https://datasheet.ciiva.com/2465/dcrcwe3-2465916.pdf?src-supplier=Digi-Key; ComponentLink7Description: https://datasheet.ciiva.com/2465/dcrcwe3-2465916.pdf?src-supplier=Digi-Key; ComponentLink8URL: https://datasheet.ciiva.com/2465/dcrcwe3-2465917.pdf?src-supplier=Digi-Key; ComponentLink8Description: https://datasheet.ciiva.com/2465/dcrcwe3-2465917.pdf?src-supplier=Digi-Key; ComponentLink9URL: https://datasheet.ciiva.com/26314/fld-crcw-e3-data-en-26314669.pdf?src-supplier=Distrelec; ComponentLink9Description: https://datasheet.ciiva.com/26314/fld-crcw-e3-data-en-26314669.pdf?src-supplier=Distrelec; ComponentLink10URL: https://datasheet.ciiva.com/3257/dcrcwe3-3257438.pdf?src-supplier=Avnet; ComponentLink10Description: https://datasheet.ciiva.com/3257/dcrcwe3-3257438.pdf?src-supplier=Avnet; ComponentLink11URL: https://datasheet.ciiva.com/16884/dcrcwe3-16884750.pdf?src-supplier=Avnet+Europe; ComponentLink11Description: https://datasheet.ciiva.com/16884/dcrcwe3-16884750.pdf?src-supplier=Avnet+Europe
footprint RES_0603_1608X06 (Chip Resistor, 2-Leads, Body 1.60x0.80mm, IPC Medium Density)
pins: 1, 2

## CRCW060345K3FKEA
designator R?, comment 45.3K 1%
RESISTOR, 0603, 45K3, 1% ;ROHS COMPLIANT: YES; Manufacturer: Vishay; Manufacturer Part Number: CRCW060345K3FKEA; Resistance: 45.3kR; Power Rating: 100mW; Temperature Coefficient: 100ppm/°C; Voltage Rating: 75V; Supplier 1: Digi-Key; RoHS: Yes; Category: Chip SMD Resistors; Stock 1: 869; Pricing 1: 1=0.10000, 10=0.03400, 100=0.01390, 1000=0.00624, 2500=0.00542 (USD); Mount: Surface Mount; Case/Package: 0603; Number of Pins: 2; Weight: 7.1E-05oz; Case Code (Metric): 1608; Case Code (Imperial): 0603; Contact Plating: Tin; Min Operating Temperature: -55°C; Max Operating Temperature: 155°C; Tolerance: 1%; Packaging: Tape and Reel; Package Quantity: 5000; Resistor Type: Thick Film; Number of Terminations: 2; Termination: SMD/SMT; Max Power Dissipation: 100mW; Features: Automotive AEC-Q200; Series: CRCW; Voltage Rating (DC): 75V; Working Voltage: 75V; Resistance Tolerance: 1%; Technology: THICK FILM; Construction: Rectangular; Length: 1.55mm; Width: 0.033inch; Height: 0.45mm; Depth: 0.85mm; Radiation Hardening: No; Lead Free: Lead Free; RoHS Compliant: Yes; REACH SVHC: Unknown; Military Standard: Not; ComponentLink1URL: https://datasheet.ciiva.com/22871/70201119-22871510.pdf?src-supplier=Allied+Electronics; ComponentLink1Description: https://datasheet.ciiva.com/22871/70201119-22871510.pdf?src-supplier=Allied+Electronics; ComponentLink2URL: https://datasheet.ciiva.com/3257/dcrcwe3-3257609.pdf?src-supplier=Avnet; ComponentLink2Description: https://datasheet.ciiva.com/3257/dcrcwe3-3257609.pdf?src-supplier=Avnet; ComponentLink3URL: https://datasheet.ciiva.com/3257/dcrcwe3-3257610.pdf?src-supplier=Avnet; ComponentLink3Description: https://datasheet.ciiva.com/3257/dcrcwe3-3257610.pdf?src-supplier=Avnet; ComponentLink4URL: https://datasheet.ciiva.com/22702/1697337-22702829.pdf?src-supplier=Element14; ComponentLink4Description: https://datasheet.ciiva.com/22702/1697337-22702829.pdf?src-supplier=Element14; ComponentLink5URL: https://datasheet.ciiva.com/5547/dcrcwe3-109170-5547160.pdf?src-supplier=Mouser; ComponentLink5Description: https://datasheet.ciiva.com/5547/dcrcwe3-109170-5547160.pdf?src-supplier=Mouser; ComponentLink6URL: https://datasheet.ciiva.com/7792/125364-7792284.pdf?src-supplier=Element14; ComponentLink6Description: https://datasheet.ciiva.com/7792/125364-7792284.pdf?src-supplier=Element14
footprint RES_0603_1608X06 (Chip Resistor, 2-Leads, Body 1.60x0.80mm, IPC Medium Density)
pins: 1, 2

## CRCW060353K6FKEAC
designator R?, comment 53.6K 1%
CRCW Thick Film Commodity Chip Resistor 0603 Size 53.6K Ohm 1% 0.1 W 100 ppm/K 2-Pin SMD Paper T/R; Manufacturer: Vishay; Manufacturer Part Number: CRCW060353K6FKEAC; Power Rating: 100mW; Resistance: 53.6kR; Supplier 1: Digi-Key; Category: Resistors; Stock 1: 54606; Pricing 1: 1=0.10000, 10=0.03400, 100=0.01390, 1000=0.00624, 2500=0.00542 (USD); Case/Package: 0603; Tolerance: 1%; Lead Free: Lead Free; RoHS Compliant: Yes
footprint RES_0603_1608X06 (Chip Resistor, 2-Leads, Body 1.60x0.80mm, IPC Medium Density)
pins: 1, 2

## CRCW060360K4FKEA
designator R?, comment 60.4K 1%
VISHAY - CRCW060360K4FKEA - SMD Chip Resistor, 0603 [1608 Metric], 60.4 kohm, CRCW e3 Series, 75 V, Thick Film, 100 mW; Resistance: 60.4kR; Temperature Coefficient: 100ppm/°C; Max Power Dissipation: 100mW; Voltage Rating: 75V; Supplier 1: Digi-Key; Manufacturer: Vishay; Manufacturer Part Number: CRCW060360K4FKEA; RoHS: Yes; Category: Chip SMD Resistors; Stock 1: 18673; Pricing 1: 1=0.10000, 10=0.03400, 100=0.01390, 1000=0.00624, 2500=0.00542 (USD); Case/Package: 0603; Contact Plating: Tin; Weight: 7.1E-05oz; Case Code (Metric): 1608; Case Code (Imperial): 0603; Size Code: 0603; Min Operating Temperature: -55°C; Max Operating Temperature: 155°C; Tolerance: 1%; Resistor Type: Thick Film; Packaging: Tape and Reel; Package Quantity: 10; Number of Terminations: 2; Features: Automotive AEC-Q200; Series: CRCW; Power Rating: 100mW; Termination: SMD/SMT; Voltage Rating (DC): 75V; Resistance Tolerance: 1%; Technology: THICK FILM; Construction: Rectangular; Length: 1.55mm; Width: 0.033inch; Height: 0.45mm; Depth: 0.85mm; Radiation Hardening: No; Lead Free: Lead Free; RoHS Compliant: Yes; REACH SVHC: Unknown; Military Standard: Not; ComponentLink1URL: https://datasheet.ciiva.com/11809/0900766b80d98afc-11809685.pdf?src-supplier=RSComponents; ComponentLink1Description: https://datasheet.ciiva.com/11809/0900766b80d98afc-11809685.pdf?src-supplier=RSComponents; ComponentLink2URL: https://datasheet.ciiva.com/16391/dcrcwe3-16391304.pdf?src-supplier=Future+Electronics; ComponentLink2Description: https://datasheet.ciiva.com/16391/dcrcwe3-16391304.pdf?src-supplier=Future+Electronics; ComponentLink3URL: https://datasheet.ciiva.com/16893/dcrcwe3-16893592.pdf?src-supplier=Avnet+Europe; ComponentLink3Description: https://datasheet.ciiva.com/16893/dcrcwe3-16893592.pdf?src-supplier=Avnet+Europe; ComponentLink4URL: https://datasheet.ciiva.com/3257/dcrcwe3-3257786.pdf?src-supplier=Avnet; ComponentLink4Description: https://datasheet.ciiva.com/3257/dcrcwe3-3257786.pdf?src-supplier=Avnet; ComponentLink5URL: https://datasheet.ciiva.com/2494/dcrcwe3-2494471.pdf?src-supplier=Digi-Key; ComponentLink5Description: https://datasheet.ciiva.com/2494/dcrcwe3-2494471.pdf?src-supplier=Digi-Key; ComponentLink6URL: https://datasheet.ciiva.com/16760/70201119-16760503.pdf?src-supplier=Allied+Electronics; ComponentLink6Description: https://datasheet.ciiva.com/16760/70201119-16760503.pdf?src-supplier=Allied+Electronics; ComponentLink7URL: https://datasheet.ciiva.com/2494/dcrcwe3-2494472.pdf?src-supplier=Digi-Key; ComponentLink7Description: https://datasheet.ciiva.com/2494/dcrcwe3-2494472.pdf?src-supplier=Digi-Key; ComponentLink8URL: https://datasheet.ciiva.com/22676/1847332-22676330.pdf?src-supplier=Element14; ComponentLink8Description: https://datasheet.ciiva.com/22676/1847332-22676330.pdf?src-supplier=Element14; ComponentLink9URL: https://datasheet.ciiva.com/7816/1697337-7816053.pdf?src-supplier=Element14; ComponentLink9Description: https://datasheet.ciiva.com/7816/1697337-7816053.pdf?src-supplier=Element14; ComponentLink10URL: https://datasheet.ciiva.com/2494/dcrcwe3-2494473.pdf?src-supplier=Digi-Key; ComponentLink10Description: https://datasheet.ciiva.com/2494/dcrcwe3-2494473.pdf?src-supplier=Digi-Key; ComponentLink11URL: https://datasheet.ciiva.com/5545/dcrcwe3-109170-5545721.pdf?src-supplier=Mouser; ComponentLink11Description: https://datasheet.ciiva.com/5545/dcrcwe3-109170-5545721.pdf?src-supplier=Mouser; ComponentLink12URL: https://datasheet.ciiva.com/3257/dcrcwe3-3257787.pdf?src-supplier=Avnet; ComponentLink12Description: https://datasheet.ciiva.com/3257/dcrcwe3-3257787.pdf?src-supplier=Avnet
footprint RES_0603_1608X06 (Chip Resistor, 2-Leads, Body 1.60x0.80mm, IPC Medium Density)
pins: 1, 2

## CRCW0603100KJNEB
designator R?, comment 100K 5%
Res Thick Film 0603 100K Ohm 5% 0.1W(1/10W) ±200ppm/C Molded SMD Automotive Paper T/R; Manufacturer: Vishay Dale; Manufacturer Part Number: CRCW0603100KJNEB; Resistance: 100kR; Power Rating: 100mW; Voltage Rating: 75V; Temperature Coefficient: 200ppm/°C; Supplier 1: Digi-Key; RoHS: Yes; Category: Chip SMD Resistors; Stock 1: 3982; Pricing 1: 1=0.10000, 10=0.03100, 100=0.01250, 1000=0.00563, 2500=0.00488, 5000=0.00403 (USD); Case/Package: 0603; Weight: 7.1E-05oz; Case Code (Imperial): 0603; Case Code (Metric): 1608; Contact Plating: Tin; Min Operating Temperature: -55°C; Max Operating Temperature: 155°C; Packaging: Tape and Reel; Tolerance: 5%; Package Quantity: 10000; Resistor Type: Thick Film; Number of Terminations: 2; Termination: SMD/SMT; Max Power Dissipation: 100mW; Features: Automotive AEC-Q200; Series: CRCW; Construction: Rectangular; Length: 1.55mm; Width: 0.033inch; Height: 0.02inch; Depth: 0.85mm; Radiation Hardening: No; RoHS Compliant: Yes; Military Standard: Not; Lead Free: Lead Free; ComponentLink1URL: https://datasheet.ciiva.com/3256/dcrcwe3-3256923.pdf?src-supplier=Avnet; ComponentLink1Description: https://datasheet.ciiva.com/3256/dcrcwe3-3256923.pdf?src-supplier=Avnet; ComponentLink2URL: https://datasheet.ciiva.com/5543/dcrcwe3-109170-5543336.pdf?src-supplier=Mouser; ComponentLink2Description: https://datasheet.ciiva.com/5543/dcrcwe3-109170-5543336.pdf?src-supplier=Mouser; ComponentLink3URL: https://datasheet.ciiva.com/3256/dcrcwe3-3256922.pdf?src-supplier=Avnet; ComponentLink3Description: https://datasheet.ciiva.com/3256/dcrcwe3-3256922.pdf?src-supplier=Avnet
footprint RES_0603_1608X06 (Chip Resistor, 2-Leads, Body 1.60x0.80mm, IPC Medium Density)
pins: 1, 2

## CRCW0603200KFKEA
designator R?, comment 200K 1%
VISHAY - CRCW0603200KFKEA - SMD Chip Resistor, 0603 [1608 Metric], 200 kohm, CRCW e3 Series, 75 V, Thick Film, 100 mW; Resistance: 200kR; Temperature Coefficient: 100ppm/°C; Power Rating: 100mW; Voltage Rating: 75V; Supplier 1: Avnet; Manufacturer: Vishay; Manufacturer Part Number: CRCW0603200KFKEA; RoHS: Yes; Category: Chip SMD Resistors; Stock 1: 660000; Pricing 1: 5000=0.00192, 10000=0.00189, 20000=0.00184, 30000=0.00180, 40000=0.00173, 50000=0.00169, 500000=0.00165 (USD); Mount: Surface Mount; Case/Package: 0603; Contact Plating: Tin; Weight: 7.1E-05oz; Case Code (Metric): 1608; Case Code (Imperial): 0603; Min Operating Temperature: -55°C; Max Operating Temperature: 155°C; Resistor Type: Thick Film; Tolerance: 1%; Packaging: Tape and Reel; Package Quantity: 10; Number of Terminations: 2; Termination: SMD/SMT; Max Power Dissipation: 100mW; Features: Automotive AEC-Q200; Series: CRCW; Construction: Rectangular; Voltage Rating (DC): 75V; Working Voltage: 75V; Technology: THICK FILM; Resistance Tolerance: 1%; Length: 1.55mm; Width: 0.033inch; Height: 0.45mm; Depth: 0.85mm; Radiation Hardening: No; Lead Free: Lead Free; RoHS Compliant: Yes; Military Standard: Not; REACH SVHC: Unknown; ComponentLink1URL: https://datasheet.ciiva.com/11808/0900766b80d98afc-11808389.pdf?src-supplier=RSComponents; ComponentLink1Description: https://datasheet.ciiva.com/11808/0900766b80d98afc-11808389.pdf?src-supplier=RSComponents; ComponentLink2URL: https://datasheet.ciiva.com/2465/dcrcwe3-2465731.pdf?src-supplier=Digi-Key; ComponentLink2Description: https://datasheet.ciiva.com/2465/dcrcwe3-2465731.pdf?src-supplier=Digi-Key; ComponentLink3URL: https://datasheet.ciiva.com/16199/dcrcwe3-16199205.pdf?src-supplier=Future+Electronics; ComponentLink3Description: https://datasheet.ciiva.com/16199/dcrcwe3-16199205.pdf?src-supplier=Future+Electronics; ComponentLink4URL: https://datasheet.ciiva.com/7714/1697337-7714246.pdf?src-supplier=Element14; ComponentLink4Description: https://datasheet.ciiva.com/7714/1697337-7714246.pdf?src-supplier=Element14; ComponentLink5URL: https://datasheet.ciiva.com/3257/dcrcwe3-3257230.pdf?src-supplier=Avnet; ComponentLink5Description: https://datasheet.ciiva.com/3257/dcrcwe3-3257230.pdf?src-supplier=Avnet; ComponentLink6URL: https://datasheet.ciiva.com/3257/dcrcwe3-3257231.pdf?src-supplier=Avnet; ComponentLink6Description: https://datasheet.ciiva.com/3257/dcrcwe3-3257231.pdf?src-supplier=Avnet; ComponentLink7URL: https://datasheet.ciiva.com/2465/dcrcwe3-2465729.pdf?src-supplier=Digi-Key; ComponentLink7Description: https://datasheet.ciiva.com/2465/dcrcwe3-2465729.pdf?src-supplier=Digi-Key; ComponentLink8URL: https://datasheet.ciiva.com/2465/dcrcwe3-2465730.pdf?src-supplier=Digi-Key; ComponentLink8Description: https://datasheet.ciiva.com/2465/dcrcwe3-2465730.pdf?src-supplier=Digi-Key; ComponentLink9URL: https://datasheet.ciiva.com/5546/dcrcwe3-109170-5546041.pdf?src-supplier=Mouser; ComponentLink9Description: https://datasheet.ciiva.com/5546/dcrcwe3-109170-5546041.pdf?src-supplier=Mouser; ComponentLink10URL: https://datasheet.ciiva.com/16893/dcrcwe3-16893833.pdf?src-supplier=Avnet+Europe; ComponentLink10Description: https://datasheet.ciiva.com/16893/dcrcwe3-16893833.pdf?src-supplier=Avnet+Europe
footprint RES_0603_1608X06 (Chip Resistor, 2-Leads, Body 1.60x0.80mm, IPC Medium Density)
pins: 1, 2

## CRCW0603340KFKEA
designator R?, comment 340K 1%
VISHAY - CRCW0603340KFKEA - SMD Chip Resistor, 0603 [1608 Metric], 340 kohm, CRCW e3 Series, 75 V, Thick Film, 100 mW; Resistance: 340kR; Temperature Coefficient: 100ppm/°C; Max Power Dissipation: 100mW; Voltage Rating: 75V; Supplier 1: Digi-Key; Manufacturer: Vishay; Manufacturer Part Number: CRCW0603340KFKEA; RoHS: Yes; Category: Chip SMD Resistors; Stock 1: 9256; Pricing 1: 1=0.10000, 10=0.03400, 100=0.01390, 1000=0.00624, 2500=0.00542 (USD); Case/Package: 0603; Number of Pins: 2; Weight: 7.1E-05oz; Case Code (Metric): 1608; Case Code (Imperial): 0603; Contact Plating: Tin; Size Code: 0603; Min Operating Temperature: -55°C; Max Operating Temperature: 155°C; Packaging: Tape and Reel; Tolerance: 1%; Package Quantity: 10; Resistor Type: Thick Film; Number of Terminations: 2; Features: Automotive AEC-Q200; Series: CRCW; Power Rating: 100mW; Termination: SMD/SMT; Voltage Rating (DC): 75V; Resistance Tolerance: 1%; Construction: Rectangular; Length: 1.55mm; Width: 0.033inch; Height: 0.02inch; Depth: 0.85mm; Radiation Hardening: No; Lead Free: Lead Free; RoHS Compliant: Yes; REACH SVHC: Unknown; Military Standard: Not; ComponentLink1URL: https://datasheet.ciiva.com/2466/dcrcwe3-2466626.pdf?src-supplier=Digi-Key; ComponentLink1Description: https://datasheet.ciiva.com/2466/dcrcwe3-2466626.pdf?src-supplier=Digi-Key; ComponentLink2URL: https://datasheet.ciiva.com/2466/dcrcwe3-2466627.pdf?src-supplier=Digi-Key; ComponentLink2Description: https://datasheet.ciiva.com/2466/dcrcwe3-2466627.pdf?src-supplier=Digi-Key; ComponentLink3URL: https://datasheet.ciiva.com/2466/dcrcwe3-2466628.pdf?src-supplier=Digi-Key; ComponentLink3Description: https://datasheet.ciiva.com/2466/dcrcwe3-2466628.pdf?src-supplier=Digi-Key; ComponentLink4URL: https://datasheet.ciiva.com/3257/dcrcwe3-3257477.pdf?src-supplier=Avnet; ComponentLink4Description: https://datasheet.ciiva.com/3257/dcrcwe3-3257477.pdf?src-supplier=Avnet; ComponentLink5URL: https://datasheet.ciiva.com/7674/1697337-7674078.pdf?src-supplier=Element14; ComponentLink5Description: https://datasheet.ciiva.com/7674/1697337-7674078.pdf?src-supplier=Element14; ComponentLink6URL: https://datasheet.ciiva.com/5548/dcrcwe3-109170-5548476.pdf?src-supplier=Mouser; ComponentLink6Description: https://datasheet.ciiva.com/5548/dcrcwe3-109170-5548476.pdf?src-supplier=Mouser; ComponentLink7URL: https://datasheet.ciiva.com/7674/1697337-7674079.pdf?src-supplier=Element14; ComponentLink7Description: https://datasheet.ciiva.com/7674/1697337-7674079.pdf?src-supplier=Element14
footprint RES_0603_1608X06 (Chip Resistor, 2-Leads, Body 1.60x0.80mm, IPC Medium Density)
pins: 1, 2